# Altium footprint library MB1136.PcbLib: 40 footprints (part 2 of 3)
Each footprint in its own frame and in the unit in brackets; x right, y up, seen from the top. Pads: shape width x height; smd on the part's side, far side on the other; paste and mask are expansions set on the pad; w line width, h text height; cw(c..) or ccw(c..) is an arc to the next point about the centre after c.
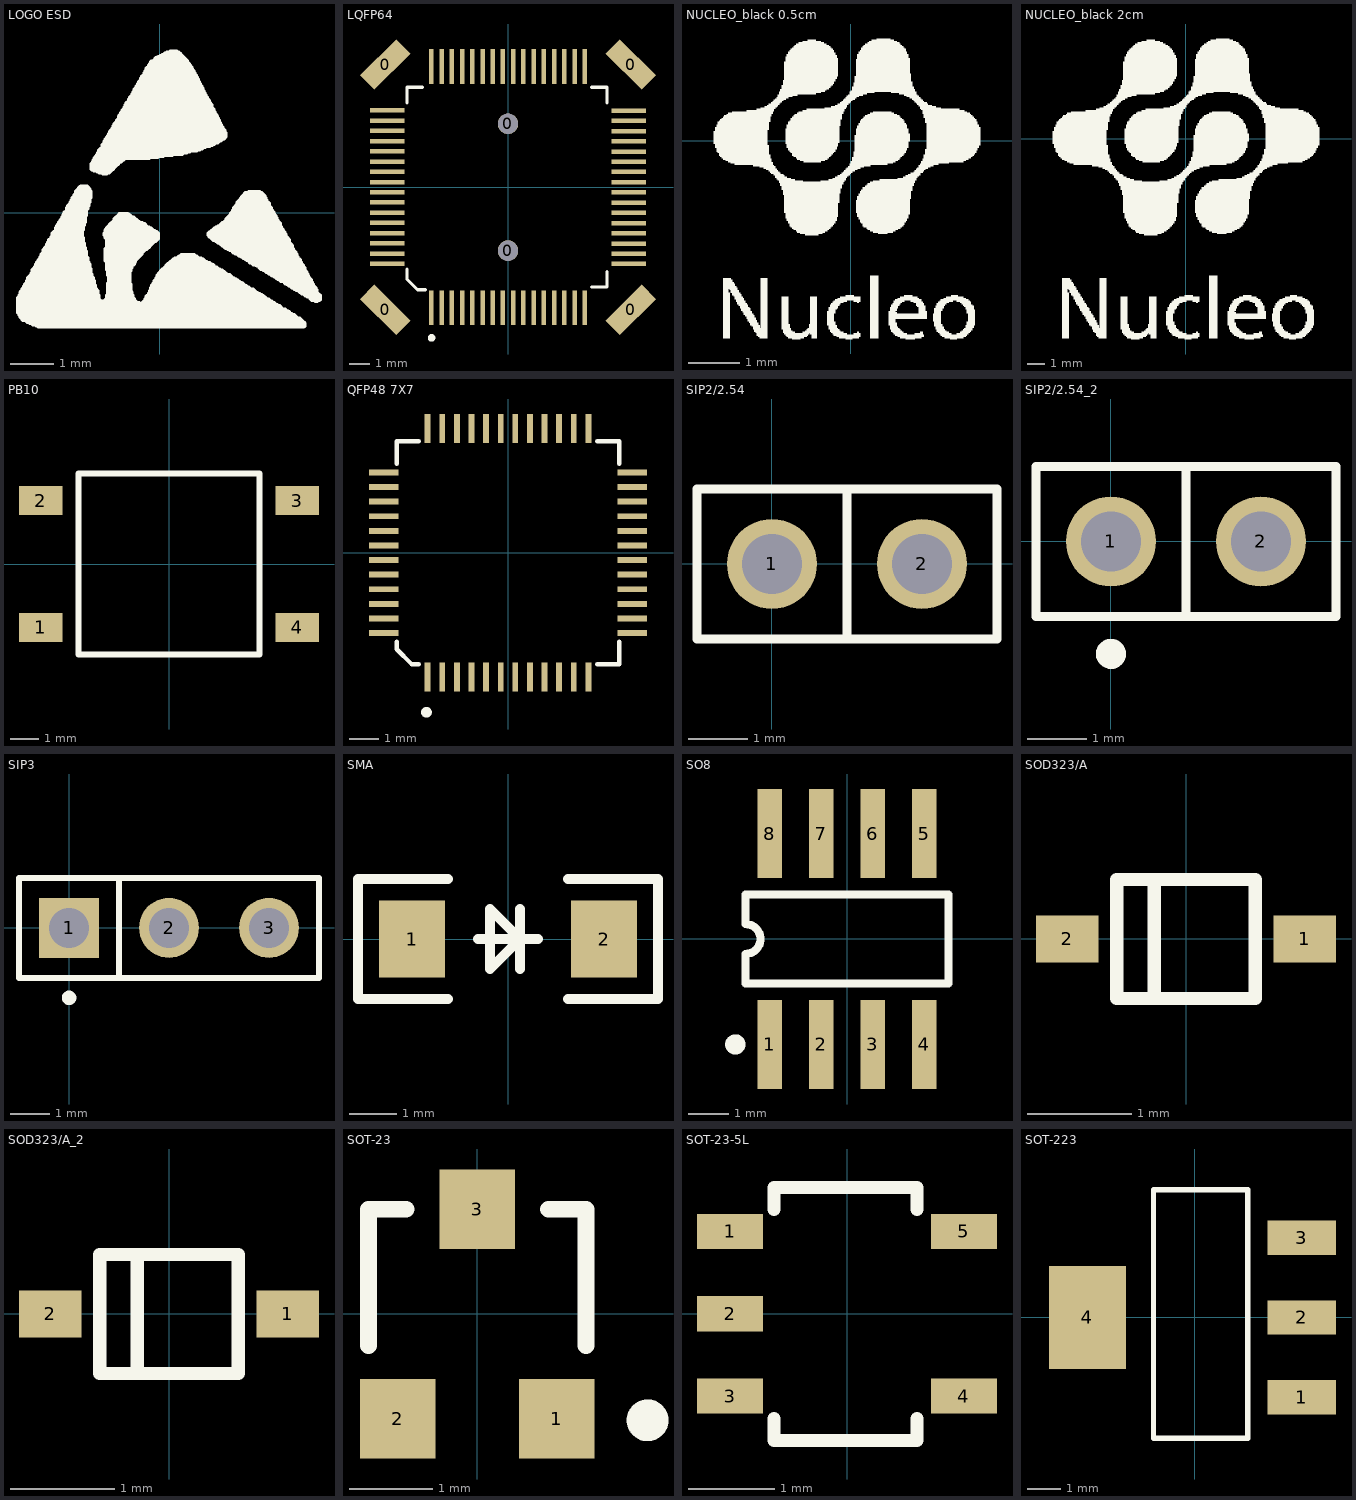
[diagram p1: the footprints below, top view; thin cyan lines are the x and y axes]

## LOGO ESD [mm]
height 1.3
Top Overlay:
  drawing of 457 lines, arcs and shapes, not listed

## LQFP64 [mm]
height 1.6
pads (70):
  rect 1x2.5 smd rot 45: 0(-6,-6) 0(6,6)
  rect 1x2.5 smd rot 135: 0(-6,6) 0(6,-6)
  round 1 hole 1 unplated: 0(0,-3.1) 0(0,3.1)
  rect 0.22x1.7 smd: 1(-3.747,-5.901) 2(-3.247,-5.901) 3(-2.747,-5.901) 4(-2.247,-5.901) 5(-1.747,-5.901) 6(-1.247,-5.901) 7(-0.747,-5.901) 8(-0.247,-5.901) 9(0.253,-5.901) 10(0.753,-5.901) 11(1.253,-5.901) 12(1.753,-5.901) 13(2.253,-5.901) 14(2.753,-5.901) 15(3.253,-5.901) 16(3.753,-5.901) 33(3.753,5.902) 34(3.253,5.902) 35(2.753,5.902) 36(2.253,5.902) 37(1.753,5.902) 38(1.253,5.902) 39(0.753,5.902) 40(0.253,5.902) 41(-0.247,5.902) 42(-0.747,5.902) 43(-1.247,5.902) 44(-1.747,5.902) 45(-2.247,5.902) 46(-2.747,5.902) 47(-3.247,5.902) 48(-3.746,5.901)
  rect 1.7x0.22 smd: 17(5.901,-3.753) 18(5.901,-3.253) 19(5.901,-2.753) 20(5.901,-2.253) 21(5.901,-1.753) 22(5.901,-1.253) 23(5.901,-0.753) 24(5.901,-0.253) 25(5.901,0.247) 26(5.901,0.747) 27(5.901,1.247) 28(5.901,1.747) 29(5.901,2.247) 30(5.901,2.747) 31(5.901,3.247) 32(5.901,3.747) 49(-5.902,3.753) 50(-5.902,3.253) 51(-5.902,2.753) 52(-5.902,2.253) 53(-5.902,1.753) 54(-5.902,1.253) 55(-5.902,0.753) 56(-5.902,0.253) 57(-5.902,-0.247) 58(-5.902,-0.747) 59(-5.902,-1.247) 60(-5.902,-1.747) 61(-5.902,-2.247) 62(-5.902,-2.746) 63(-5.902,-3.246) 64(-5.902,-3.746)
Top Overlay:
  circle w0.25: c-3.742,-7.366 r0.059
  lines w0.152: -4.938,-4 -4.938,-4.508 -4.43,-5.016 -4.049,-5.016 ; -4.938,4.128 -4.938,4.89 -4.176,4.89 ; 4.079,-4.889 4.841,-4.889 4.841,-4.127 ; 4.079,4.89 4.841,4.89 4.841,4.128

## NUCLEO_black 0.5cm [mm]
height 1.1
Top Overlay:
  drawing of 787 lines, arcs and shapes, not listed

## NUCLEO_black 2cm [mm]
height 1.1
Top Overlay:
  drawing of 787 lines, arcs and shapes, not listed

## PB10 [mil]
pads (4):
  rect 60x40 smd: 1(-177.17,-87.5) 2(-177.17,87.5) 3(177.17,87.5) 4(177.17,-87.5)
Top Overlay:
  lines w8: -125,-125 125,-125 125,125 -125,125 -125,-125

## QFP48 7X7 [mm]
height 2
pads (48):
  rect 0.2x1 smd: 1(-2.75,-4.25) 2(-2.25,-4.25) 3(-1.75,-4.25) 4(-1.25,-4.25) 5(-0.75,-4.25) 6(-0.25,-4.25) 7(0.25,-4.25) 8(0.75,-4.25) 9(1.25,-4.25) 10(1.75,-4.25) 11(2.25,-4.25) 12(2.75,-4.25) 25(2.75,4.25) 26(2.25,4.25) 27(1.75,4.25) 28(1.25,4.25) 29(0.75,4.25) 30(0.25,4.25) 31(-0.25,4.25) 32(-0.75,4.25) 33(-1.25,4.25) 34(-1.75,4.25) 35(-2.25,4.25) 36(-2.75,4.25)
  rect 1x0.2 smd: 13(4.25,-2.75) 14(4.25,-2.25) 15(4.25,-1.75) 16(4.25,-1.25) 17(4.25,-0.75) 18(4.25,-0.25) 19(4.25,0.25) 20(4.25,0.75) 21(4.25,1.25) 22(4.25,1.75) 23(4.25,2.25) 24(4.25,2.75) 37(-4.25,2.75) 38(-4.25,2.25) 39(-4.25,1.75) 40(-4.25,1.25) 41(-4.25,0.75) 42(-4.25,0.25) 43(-4.25,-0.25) 44(-4.25,-0.75) 45(-4.25,-1.25) 46(-4.25,-1.75) 47(-4.25,-2.25) 48(-4.25,-2.75)
Top Overlay:
  circle w0.25: c-2.792,-5.461 r0.059
  lines w0.152: -3.81,-3.048 -3.81,-3.302 -3.302,-3.81 -3.048,-3.81 ; -3.81,3.048 -3.81,3.81 -3.048,3.81 ; 3.048,-3.81 3.81,-3.81 3.81,-3.048 ; 3.048,3.81 3.81,3.81 3.81,3.048

## SIP2/2.54 [mil]
height 78.74
pads (2):
  round 60 hole 40: 1(0,0) 2(100,0)
Top Overlay:
  lines w6: 50.04,-50.04 50.04,49.96 ; -49.96,-50.04 150.04,-50.04 150.04,49.96 -49.96,49.96 -49.96,-50.04

## SIP2/2.54_2 [mil]
pads (2):
  round 60 hole 40: 1(0,0) 2(100,0)
Top Overlay:
  circle w10: c0.08,-75 r5.08
  lines w6: 50.04,-50.04 50.04,49.96 ; -49.96,-50.04 -49.96,49.96 150.04,49.96 150.04,-50.04 -49.96,-50.04

## SIP3 [mil]
height 275.98
pads (3):
  rect 60x60 hole 40: 1(0,0)
  round 60 hole 40: 2(100,0) 3(200,0)
Top Overlay:
  circle w9.84: c0.08,-70 r2.31
  lines w6: 50,-50 50,50 ; -50,-50 250,-50 250,50 -50,50 -50,-50

## SMA [mm]
height 5
pads (2):
  rect 1.4x1.64 smd: 1(-2.032,0) 2(2.032,0)
Top Overlay:
  lines w0.203: -1.27,-1.27 -3.175,-1.27 -3.175,1.27 -1.27,1.27 ; -0.635,0 0.635,0 ; 0.254,-0.635 0.254,0.635 ; 1.27,-1.27 3.175,-1.27 3.175,1.27 1.27,1.27 ; -0.381,-0.635 0.254,0 -0.381,0.635 -0.381,-0.635

## SO8 [mm]
height 1.75
pads (8):
  rect 0.6x2.2 smd: 1(-1.905,-2.6) 2(-0.635,-2.6) 3(0.635,-2.6) 4(1.905,-2.6) 5(1.905,2.6) 6(0.635,2.6) 7(-0.635,2.6) 8(-1.905,2.6)
Top Overlay:
  circle w0.25: c-2.755,-2.6 r0.125
  lines w0.2: -2.5,-1.1 2.5,-1.1 2.5,1.1 -2.5,1.1 -2.5,0.367 cw(c-2.5,0) -2.5,-0.367 -2.5,-1.1

## SOD323/A [mm]
height 2
pads (2):
  rect 0.6x0.45 smd: 1(1.143,0) 2(-1.143,0)
Top Overlay:
  lines w0.127: -0.305,-0.559 -0.305,0.559 ; -0.666,-0.573 -0.666,0.573 0.666,0.573 0.666,-0.573 -0.666,-0.573

## SOD323/A_2 [mm]
pads (2):
  rect 0.6x0.45 smd: 1(1.143,0) 2(-1.143,0)
Top Overlay:
  lines w0.127: -0.305,-0.559 -0.305,0.559 ; -0.666,-0.573 -0.666,0.573 0.666,0.573 0.666,-0.573 -0.666,-0.573

## SOT-23 [mm]
height 1.1
pads (3):
  rect 0.9x0.95 smd: 1(0.95,-1.25) 2(-0.95,-1.25) 3(0,1.25)
Top Overlay:
  circle w0.25: c2.034,-1.27 r0.125
  lines w0.2: -1.3,-0.375 -1.3,1.25 -0.85,1.25 ; 0.85,1.25 1.3,1.25 1.3,-0.375

## SOT-23-5L [mil]
height 78.74
pads (5):
  rect 30x16 smd: 1(-53.15,37.4) 2(-53.15,0) 3(-53.15,-37.4) 4(53.15,-37.4) 5(53.15,37.4)
Top Overlay:
  lines w6: -33.15,-47.6 -33.15,-57.6 31.85,-57.6 31.85,-47.6 ; -33.15,47.4 -33.15,57.4 31.85,57.4 31.85,47.4

## SOT-223 [mil]
height 39.37
pads (4):
  rect 80x40 smd: 1(125,-93) 2(125,0) 3(125,93)
  rect 90x120 smd: 4(-125,0)
Top Overlay:
  lines w6: -48,-141 62,-141 62,149 -48,149 -48,-141